# EAGLE library part FH19C-24S-0.5SH (library SSI)
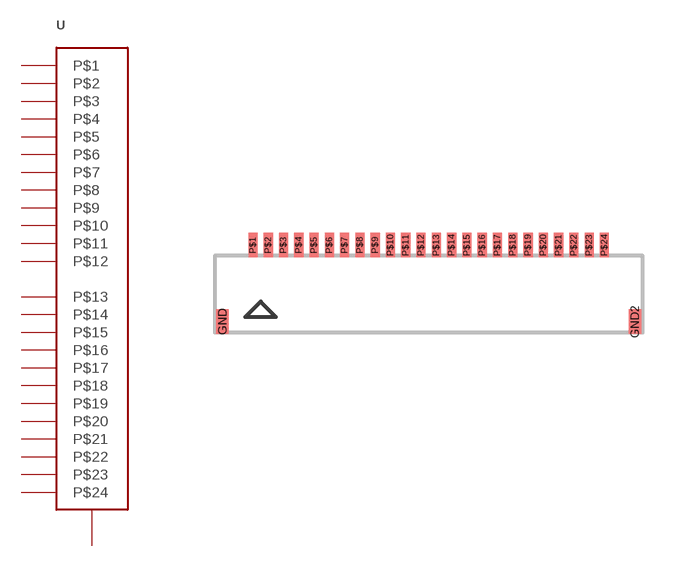
[diagram p28: symbol with the pads of FH19C-24S-0.5SH; footprint FH19C-24S-0.5SH]

Designator prefix -

## FH19C-24S-0.5SH  [FH19C-24S-0.5SH]
GND  GND
GND2  GND
P$1  P$1
P$2  P$2
P$3  P$3
P$4  P$4
P$5  P$5
P$6  P$6
P$7  P$7
P$8  P$8
P$9  P$9
P$10  P$10
P$11  P$11
P$12  P$12
P$13  P$13
P$14  P$14
P$15  P$15
P$16  P$16
P$17  P$17
P$18  P$18
P$19  P$19
P$20  P$20
P$21  P$21
P$22  P$22
P$23  P$23
P$24  P$24

## Footprint FH19C-24S-0.5SH (pad centres in mm)
smd 0.4 x 0.8: GND -6.75,-0.92; GND2 6.75,-0.92
smd 0.3 x 0.8: P$1 -5.75,1.58; P$2 -5.25,1.58; P$3 -4.75,1.58; P$4 -4.25,1.58; P$5 -3.75,1.58; P$6 -3.25,1.58; P$7 -2.75,1.58; P$8 -2.25,1.58; P$9 -1.75,1.58; P$10 -1.25,1.58; P$11 -0.75,1.58; P$12 -0.25,1.58; P$13 0.25,1.58; P$14 0.75,1.58; P$15 1.25,1.58; P$16 1.75,1.58; P$17 2.25,1.58; P$18 2.75,1.58; P$19 3.25,1.58; P$20 3.75,1.58; P$21 4.25,1.58; P$22 4.75,1.58; P$23 5.25,1.58; P$24 5.75,1.58